# Altium schematic symbol library DIA_2_SERIES_CONNECTION.SchLib: 1 symbol
Pins are listed as number, name and electrical type; pins without a type are passive.

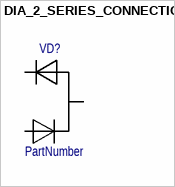
[diagram p0: symbol DIA_2_SERIES_CONNECTION]

## DIA_2_SERIES_CONNECTION
designator VD?  (value not drawn)
Диодная сборка из двух диодов с последовательным соединением; PartNumber: PartNumber
pins: 1, 2, 3